# Altium footprint library 26DC_20V_V1.3.PcbLib: 20 footprints (part 1 of 2)
Each footprint in its own frame and in the unit in brackets; x right, y up, seen from the top. Pads: shape width x height; smd on the part's side, far side on the other; paste and mask are expansions set on the pad; w line width, h text height; cw(c..) or ccw(c..) is an arc to the next point about the centre after c.
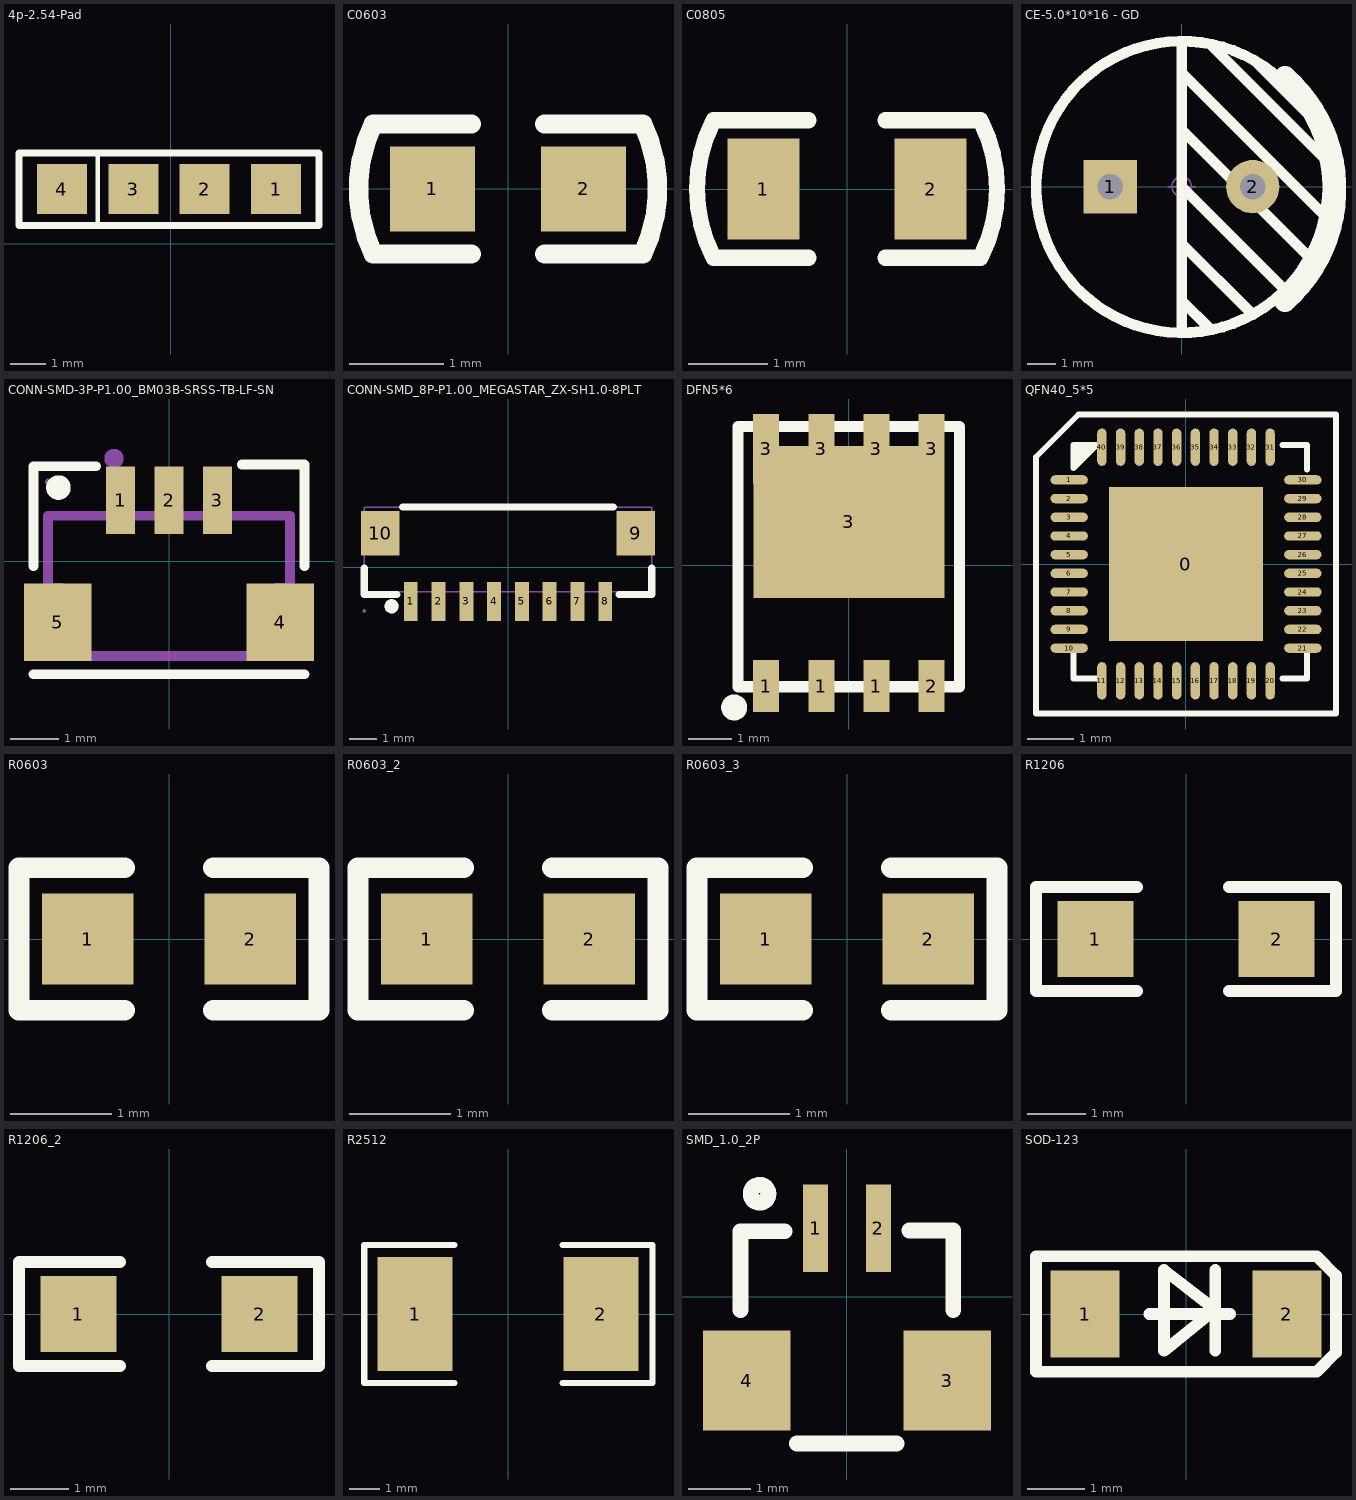
[diagram p0: the footprints below, top view; thin cyan lines are the x and y axes]

## 4p-2.54-Pad [mm]
pads (4):
  rect 1.4x1.4 smd: 1(2.952,1.524) 2(0.952,1.524) 3(-1.048,1.524) 4(-3.048,1.524)
Top Overlay:
  lines w0.127: -2.044,0.532 -2.044,2.553
  lines w0.2: -4.248,0.508 4.152,0.508 4.152,2.54 -4.248,2.54 -4.248,0.508

## C0603 [mm]
height 1.5
pads (2):
  rect 0.9x0.9 smd: 1(-0.8,0) 2(0.8,0)
Top Overlay:
  lines w0.203: -1.426,-0.688 cw(c0.002,-0.001) -1.425,0.688 -0.386,0.688 ; -1.425,-0.688 -0.386,-0.688 ; 0.386,-0.688 1.425,-0.688 ; 0.386,0.688 1.425,0.688 cw(c-0.002,-0.001) 1.426,-0.688
3D body "User Library-0603(1608M) Cap.STEP": height 0.79, standoff 0, extent -1,-0.381 1,0.406

## C0805 [mm]
height 1.5
pads (2):
  rect 0.9x1.27 smd: 1(-1.05,0) 2(1.05,0)
Top Overlay:
  lines w0.203: -0.483,-0.864 -1.676,-0.864 cw(c0,0) -1.677,0.864 -0.483,0.864 ; 0.483,-0.864 1.676,-0.864 ccw(c0,0) 1.677,0.864 0.483,0.864
3D body "User Library-0805(2012M) Cap.STEP": height 0.79, standoff 0, extent -1.245,-0.635 1.264,0.61

## CE-5.0*10*16 - GD [mm] "脚距5mm直径10mm高度16mm"
pads (2):
  rect 1.9x1.9 hole 0.9: 1(-2.54,0)
  round 1.9 hole 0.9: 2(2.54,0)
Top Overlay:
  circle w0.381: c0.012,-0.013 r5.2
  lines w0.381: 0.006,0 3.562,-3.556 ; 0.012,-5.197 0.012,5.072 ; 0.012,-5.082 0.012,-5.075 ; 0.012,-4.064 0.012,-4.07 1.022,-5.08 ; 0.012,-3.054 0.012,-3.05 0.012,-3.043 ; 0.012,-2.032 0.012,-2.038 ; 0.012,1.01 0.012,1.016 ; 0.012,2.032 0.012,2.026 4.578,-2.54 ; 0.012,4.064 0.012,4.058 5.086,-1.016 ; 0.012,5.074 0.012,5.187 ; 1.022,5.08 5.086,1.016 ; 2.546,-4.572 0.012,-2.038 ; 2.673,4.445 4.578,2.54 ; 0.012,-2.038 0.012,-2.038
  lines w0.737: 3.689,-4.105 ccw(c0.159,-0.084) 3.689,3.937
Mechanical 15:
  circle w0.05: c0.006,0 r0.35
  lines w0.05: -0.494,0 0.506,0 ; 0.006,-0.5 0.006,0.5
3D body "CAP 5X10X16.STEP": height 16.04, standoff -3.37, extent -5,-5 5.01,5

## CONN-SMD-3P-P1.00_BM03B-SRSS-TB-LF-SN [mm]
pads (5):
  rect 0.6x1.4 smd: 1(-1,1.263) 2(0,1.263) 3(1,1.263)
  rect 1.4x1.6 smd: 4(2.3,-1.262) 5(-2.3,-1.263)
Top Overlay:
  circle w0.254: c-2.286,1.524 r0.127
  lines w0.2: -2.801,-2.337 2.801,-2.337 ; -2.8,-0.1 -2.801,1.964 -1.5,1.964 ; 1.5,2 2.8,2 2.8,-0.1
Mechanical 6:
  circle w0.2: c-1.137,2.125 r0.1
Mechanical 15:
  region: -2.44,1.642 -2.44,1.667 -2.475,1.702 -2.525,1.702 -2.56,1.667 -2.56,1.642 -2.56,1.617 -2.525,1.582 -2.475,1.582 -2.44,1.617 -2.44,1.642
  region: -0.1,1.642 0.1,1.642 0.1,0.842 -0.1,0.842
  region: -1.1,1.642 -0.9,1.642 -0.9,0.842 -1.1,0.842
  region: 0.9,1.642 1.1,1.642 1.1,0.842 0.9,0.842
  region: 2.2,-0.458 2.4,-0.458 2.4,-1.958 2.2,-1.958
  region: -2.4,-0.458 -2.2,-0.458 -2.2,-1.958 -2.4,-1.958
  lines w0.2: -2.5,-1.958 -2.5,0.942 2.5,0.942 2.5,-1.958 -2.5,-1.958
3D body "PH_3P_1.0_LT.stp": height 4.4, standoff 0, extent -2.5,-2.113 2.501,1.637

## CONN-SMD_8P-P1.00_MEGASTAR_ZX-SH1.0-8PLT [mm]
pads (10):
  rect 0.5x1.4 smd paste+0 mask+0.05: 1(-3.5,-1.225) 2(-2.5,-1.225) 3(-1.5,-1.225) 4(-0.5,-1.225) 5(0.5,-1.225) 6(1.5,-1.225) 7(2.5,-1.225) 8(3.5,-1.225)
  rect 1.4x1.6 smd paste+0 mask+0.05: 9(4.6,1.225) 10(-4.6,1.225)
Top Overlay:
  circle w0.254: c-4.191,-1.397 r0.127
  lines w0.254: -5.175,-0.025 -5.175,-0.975 -4,-0.975 ; -3.8,2.175 3.8,2.175 ; 4,-0.975 5.175,-0.975 5.175,-0.025
Mechanical 6:
  circle w0.254: c-4.191,-1.397 r0.127
Mechanical 15:
  region: -5.115,-1.565 -5.115,-1.59 -5.15,-1.625 -5.2,-1.625 -5.235,-1.59 -5.235,-1.565 -5.235,-1.54 -5.2,-1.505 -5.15,-1.505 -5.115,-1.54 -5.115,-1.565
  region: 0.4,-0.765 0.6,-0.765 0.6,-1.565 0.4,-1.565
  region: 1.4,-0.765 1.6,-0.765 1.6,-1.565 1.4,-1.565
  region: 3.4,-0.765 3.6,-0.765 3.6,-1.565 3.4,-1.565
  region: 2.4,-0.765 2.6,-0.765 2.6,-1.565 2.4,-1.565
  region: -1.6,-0.765 -1.4,-0.765 -1.4,-1.565 -1.6,-1.565
  region: -0.6,-0.765 -0.4,-0.765 -0.4,-1.565 -0.6,-1.565
  region: -2.6,-0.765 -2.4,-0.765 -2.4,-1.565 -2.6,-1.565
  region: -3.6,-0.765 -3.4,-0.765 -3.4,-1.565 -3.6,-1.565
  region: -4.7,1.875 -4.5,1.875 -4.5,0.575 -4.7,0.575
  region: 4.5,1.875 4.7,1.875 4.7,0.575 4.5,0.575
  lines w0.051: -5.175,-0.875 -5.175,2.175 5.175,2.175 5.175,-0.875 -5.175,-0.875
3D body "conn-smd_8p-l10_5-w3_1-p0_10.stp": height 4.35, standoff 0, extent -5.251,-1.471 5.25,2.229

## DFN5*6 [mm]
height 1.15
pads (9):
  rect 0.6x1.2 smd: 1(-1.905,-2.783) 1(-0.635,-2.783) 1(0.635,-2.783) 2(1.905,-2.783)
  rect 0.6x1.6 smd: 3(-1.905,2.684) 3(-0.635,2.684) 3(0.635,2.684) 3(1.905,2.684)
  rect 4.4x3.5 smd: 3(0,1)
Top Overlay:
  circle w0.3: c-2.642,-3.277 r0.15
  lines w0.254: -2.55,-2.799 2.55,-2.799 2.55,3.2 -2.55,3.2 -2.55,-2.784
3D body "User Library-DFN8-5X6.STEP": height 0.95, standoff 0, extent -2.486,-3.07 2.514,3.03

## QFN40_5*5 [mm]
height 1.5
pads (41):
  rect 3.3x3.3 smd: 0(0,0)
  oval 0.8x0.2 smd: 1(-2.5,1.8) 2(-2.5,1.4) 3(-2.5,1) 4(-2.5,0.6) 5(-2.5,0.2) 6(-2.5,-0.2) 7(-2.5,-0.6) 8(-2.5,-1) 9(-2.5,-1.4) 10(-2.5,-1.8) 21(2.5,-1.8) 22(2.5,-1.4) 23(2.5,-1) 24(2.5,-0.6) 25(2.5,-0.2) 26(2.5,0.2) 27(2.5,0.6) 28(2.5,1) 29(2.5,1.4) 30(2.5,1.8)
  oval 0.2x0.8 smd: 11(-1.8,-2.5) 12(-1.4,-2.5) 13(-1,-2.5) 14(-0.6,-2.5) 15(-0.2,-2.5) 16(0.2,-2.5) 17(0.6,-2.5) 18(1,-2.5) 19(1.4,-2.5) 20(1.8,-2.5) 31(1.8,2.5) 32(1.4,2.5) 33(1,2.5) 34(0.6,2.5) 35(0.2,2.5) 36(-0.2,2.5) 37(-0.6,2.5) 38(-1,2.5) 39(-1.4,2.5) 40(-1.8,2.5)
Top Overlay:
  rectangle: -2.361,2.39 -2.058,2.512
  rectangle: -2.357,2.338 -2.094,2.45
  rectangle: -2.402,2.205 -2.202,2.355
  lines w0.127: -3.21,1.79 -3.21,2.24 -3.21,2.29 -2.3,3.2 2.81,3.2 3.21,3.2 3.21,2.95 3.21,-1.8 3.21,-3.2 2.3,-3.2 -2.81,-3.2 -3.21,-3.2 -3.21,-2.95 -3.21,1.8 ; -1.885,-2.45 -2.41,-2.45 ; 2.065,-2.45 2.59,-2.45 2.59,-1.925 ; 2.065,2.55 2.59,2.55 2.59,2.025 ; -2.41,-2.45 -2.41,-1.925 -2.41,-2.45 ; -2.41,2.05 -2.41,2.55 -1.91,2.55 -2.41,2.05
3D body "User Library-QFN 40 5x5 pitch 0_4_STEP.STEP": height 0.61, standoff -0.03, extent -2.459,-2.489 2.561,2.531

## R0603 [mm]
height 1.5
pads (2):
  rect 0.9x0.9 smd: 1(-0.8,0) 2(0.8,0)
Top Overlay:
  lines w0.203: -0.437,-0.7 -1.476,-0.7 -1.476,0.7 -0.437,0.7 ; 0.437,-0.7 1.476,-0.7 1.476,0.7 0.437,0.7
3D body "User Library-0603(1608M) Res.STEP": height 0.79, standoff 0, extent -0.991,-0.381 1.01,0.406

## R0603_2 [mm]
pads (2):
  rect 0.9x0.9 smd: 1(-0.8,0) 2(0.8,0)
Top Overlay:
  lines w0.203: -0.437,-0.7 -1.476,-0.7 -1.476,0.7 -0.437,0.7 ; 0.437,-0.7 1.476,-0.7 1.476,0.7 0.437,0.7
3D body "User Library-0603(1608M) Res.STEP": height 0.79, standoff 0, extent -0.991,-0.381 1.01,0.406

## R0603_3 [mm]
pads (2):
  rect 0.9x0.9 smd: 1(-0.8,0) 2(0.8,0)
Top Overlay:
  lines w0.203: -0.437,-0.7 -1.476,-0.7 -1.476,0.7 -0.437,0.7 ; 0.437,-0.7 1.476,-0.7 1.476,0.7 0.437,0.7
3D body "User Library-0603(1608M) Res.STEP": height 0.79, standoff 0, extent -0.991,-0.381 1.01,0.406

## R1206 [mm]
height 1.5
pads (2):
  rect 1.3x1.3 smd: 1(-1.55,0) 2(1.55,0)
Top Overlay:
  lines w0.203: -2.566,0 -2.566,0.889 ; -0.838,-0.889 -2.566,-0.889 -2.566,0.889 ; -0.838,0.889 -2.566,0.889 ; 0.736,-0.889 2.566,-0.889 ; 0.736,0.889 2.566,0.889 2.566,-0.889 ; 2.566,0 2.566,-0.889
3D body "User Library-1206(3216M) Res.STEP": height 1.53, standoff 0, extent -2,-0.787 2,0.813

## R1206_2 [mm]
pads (2):
  rect 1.3x1.3 smd: 1(-1.55,0) 2(1.55,0)
Top Overlay:
  lines w0.203: -2.566,0 -2.566,0.889 ; -0.838,-0.889 -2.566,-0.889 -2.566,0.889 ; -0.838,0.889 -2.566,0.889 ; 0.736,-0.889 2.566,-0.889 ; 0.736,0.889 2.566,0.889 2.566,-0.889 ; 2.566,0 2.566,-0.889
3D body "User Library-1206(3216M) Res.STEP": height 1.53, standoff 0, extent -2,-0.787 2,0.813

## R2512 [mm]
height 1.5
pads (2):
  rect 2.5x3.8 smd: 1(-3.098,0) 2(3.098,0)
Top Overlay:
  lines w0.203: -1.791,-2.293 -4.791,-2.293 -4.791,2.307 -1.791,2.307 ; 1.809,-2.293 4.809,-2.293 4.809,2.307 1.809,2.307
3D body "User Library-R2512-1.STEP": height 0.55, standoff 0, extent -3.426,-1.651 3.274,1.549

## SMD_1.0_2P [mm]
height 1.5
pads (4):
  rect 0.4x1.4 smd: 1(-0.5,1.095) 2(0.501,1.095)
  rect 1.4x1.6 smd: 3(1.601,-1.345) 4(-1.6,-1.345)
Top Overlay:
  circle w0.254: c-1.399,1.645 r0.141
  lines w0.254: -1.701,-0.215 -1.701,1.045 -1,1.045 ; -0.797,-2.353 0.795,-2.353 ; 1.001,1.055 1.7,1.055 1.7,0.349 ; 1.7,-0.215 1.7,0.514
3D body "SH1.0_2P.stp": height 4.4, standoff 0, extent -2.164,-2.122 2.164,1.618

## SOD-123 [mm]
height 1.5
pads (2):
  rect 1.2x1.5 smd: 1(-1.75,0) 2(1.75,0)
Top Overlay:
  lines w0.203: -0.635,0 0.762,0 ; 0.508,-0.635 0.508,0.762 ; -2.6,-1 -2.6,0 -2.6,1 2.267,1 2.6,0.667 2.6,-0.667 2.267,-1 -2.6,-1 ; -0.381,-0.635 0.508,0.076 -0.381,0.762 -0.381,-0.635
3D body "User Library-SOD-123_DiodesInc.STEP": height 1.42, standoff -0.03, extent -1.905,-0.889 1.945,0.811